# Altium footprint library 6POS JST Vertical.PcbLib: 1 footprints
Each footprint in its own frame and in the unit in brackets; x right, y up, seen from the top. Pads: shape width x height; smd on the part's side, far side on the other; paste and mask are expansions set on the pad; w line width, h text height; cw(c..) or ccw(c..) is an arc to the next point about the centre after c.
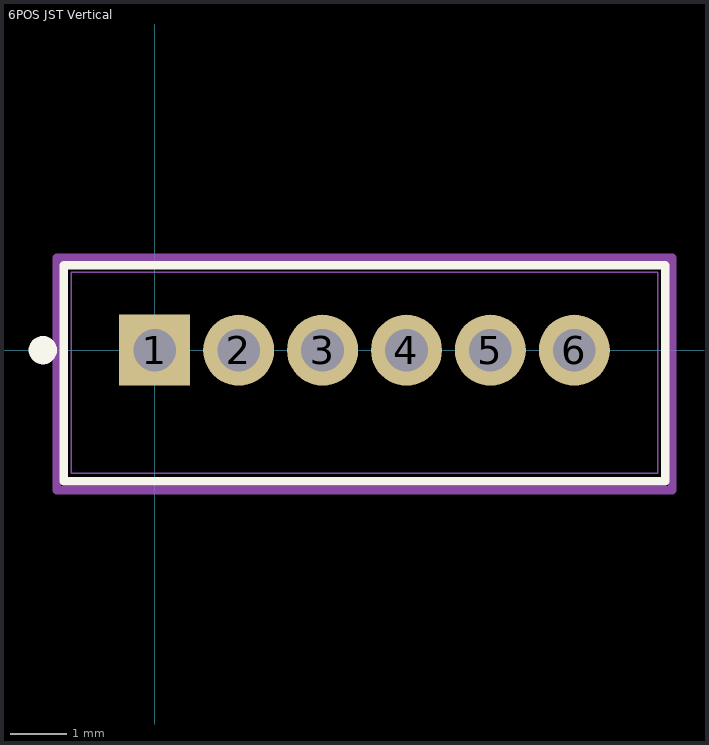
[diagram p0: the footprint, top view; thin cyan lines are the x and y axes]

## 6POS JST Vertical [mil]
pads (6):
  rect 50x50 hole 30 mask+0: 1(0,0)
  round 50 hole 30 mask+0: 2(59.06,0) 3(118.11,0) 4(177.17,0) 5(236.22,0) 6(295.28,0)
Top Overlay:
  circle w10: c-78.74,0 r4.92
  lines w6: -63.86,-92.3 -63.86,59.9 359.14,59.9 359.14,-92.3 -63.86,-92.3
Mechanical 13:
  lines w1: -58.86,-86.61 354.14,-86.61 354.14,54.9 -58.86,54.9 -58.86,-86.61
Mechanical 15:
  lines w6: -68.86,-98.43 364.14,-98.43 364.14,64.9 -68.86,64.9 -68.86,-98.43
3D body: height 10, standoff 0, extent 0,0 10,10
3D body "B6B-ZR.STEP": height 177.17, standoff -106.3, extent -59.06,-86.62 354.33,51.18